# Altium footprint library 50xxxxxxxxxxxDxx.PcbLib: 1 footprints
Each footprint in its own frame and in the unit in brackets; x right, y up, seen from the top. Pads: shape width x height; smd on the part's side, far side on the other; paste and mask are expansions set on the pad; w line width, h text height; cw(c..) or ccw(c..) is an arc to the next point about the centre after c.
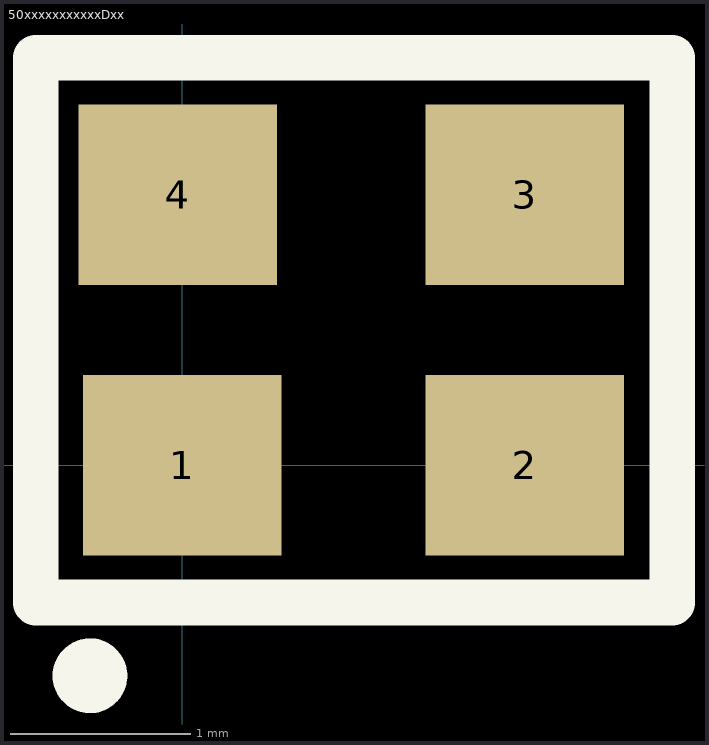
[diagram p0: the footprint, top view; thin cyan lines are the x and y axes]

## 50xxxxxxxxxxxDxx [mm] "Silicon Labs 50x family MEMS oscillator 2x2.5mm DFN"
pads (4):
  rect 1.1x1 smd paste-0.03 mask+0: 1(0,0) 2(1.9,0) 3(1.9,1.5) 4(-0.025,1.5)
Top Overlay:
  circle w0.254: c-0.512,-1.168 r0.08
  lines w0.254: -0.813,-0.762 -0.813,2.261 2.718,2.261 2.718,-0.762 -0.813,-0.762
3D body: height 0.9, standoff 0, extent -0.575,-0.5 2.45,2